# Altium footprint library 晶振.PcbLib: 19 footprints (part 1 of 2)
Each footprint in its own frame and in the unit in brackets; x right, y up, seen from the top. Pads: shape width x height; smd on the part's side, far side on the other; paste and mask are expansions set on the pad; w line width, h text height; cw(c..) or ccw(c..) is an arc to the next point about the centre after c.
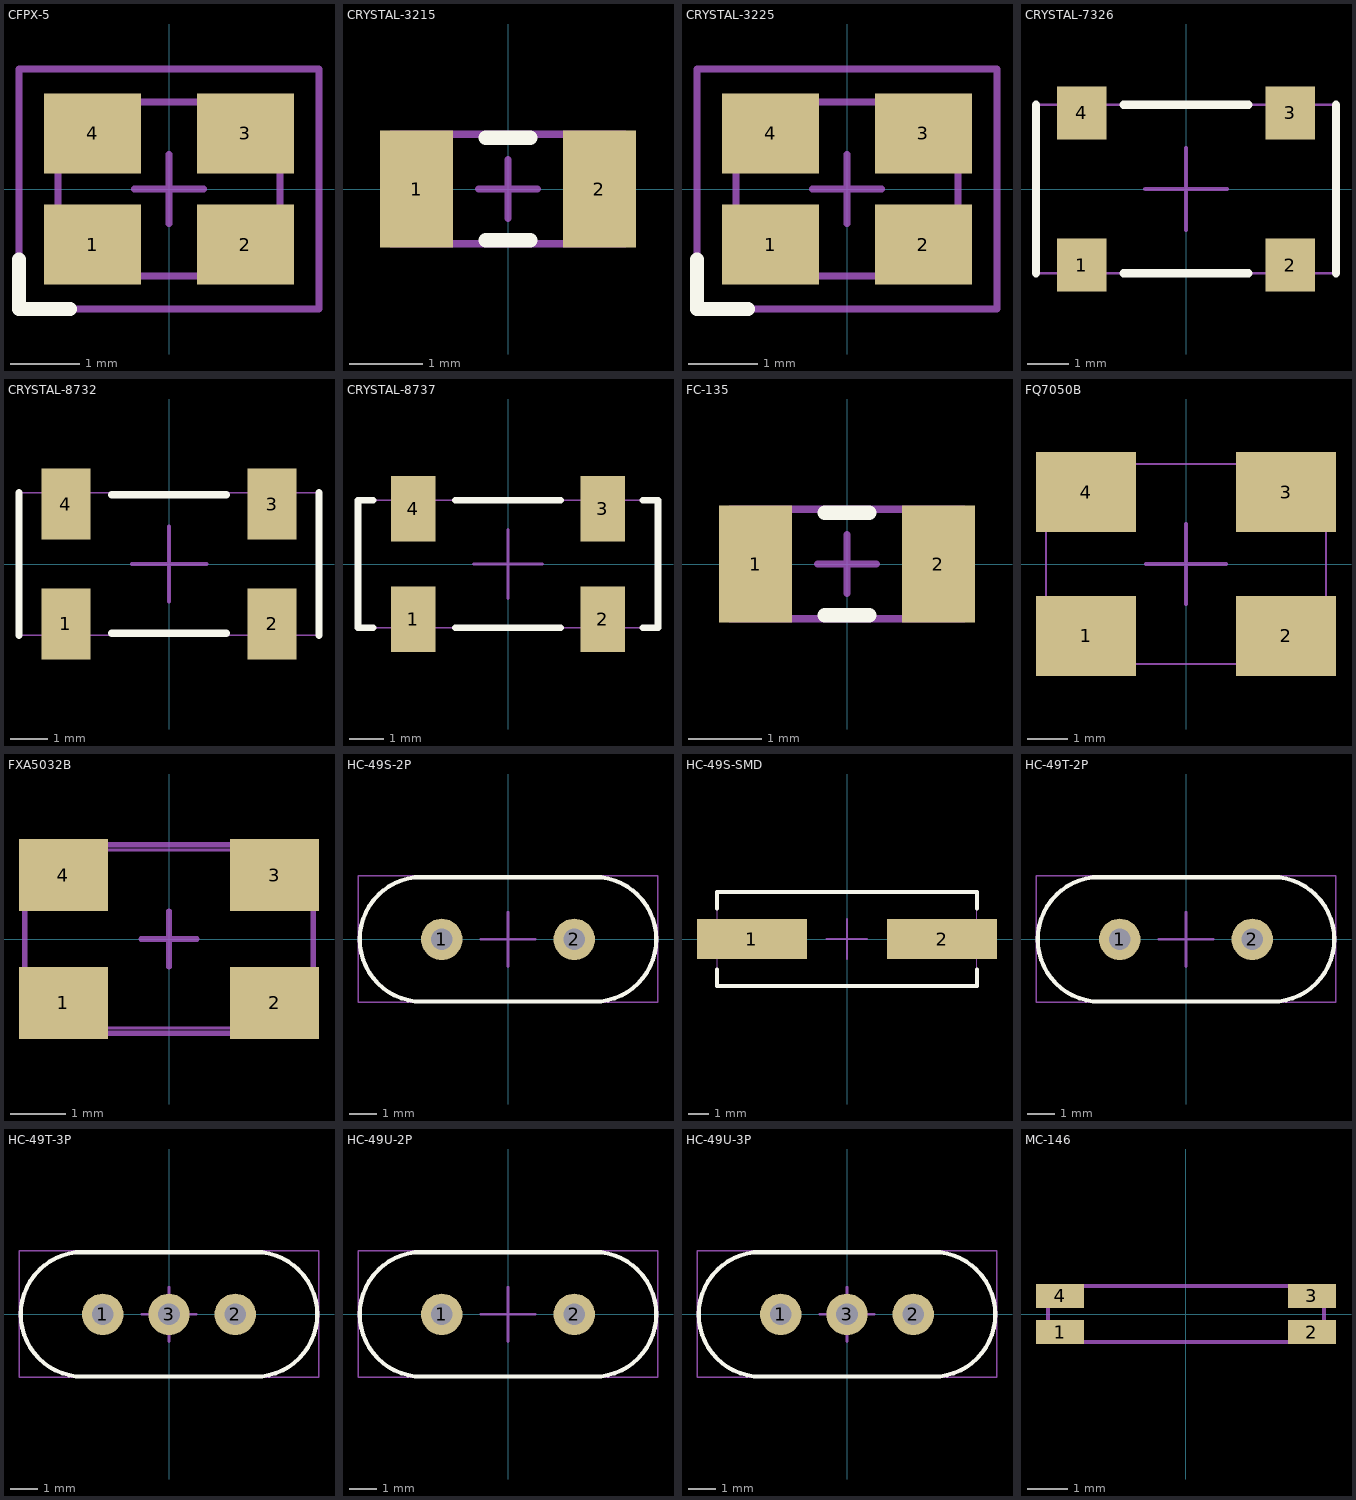
[diagram p0: the footprints below, top view; thin cyan lines are the x and y axes]

## CFPX-5 [mm] "Quartz Crystal, SM; Body 3.4 x 2.7 mm 有源晶振(LxW max)"
height 1
pads (4):
  rect 1.4x1.15 smd: 1(-1.1,-0.8) 2(1.1,-0.8) 3(1.1,0.8) 4(-1.1,0.8)
Top Overlay:
  lines w0.2: -2.159,-1.016 -2.159,-1.727 -1.422,-1.727
Mechanical 13:
  lines w0.1: -1.6,-1.25 1.6,-1.25 1.6,1.25 -1.6,1.25 -1.6,-1.25
Mechanical 15:
  lines w0.1: -0.5,0 0.5,0 ; 0,-0.5 0,0.5 ; -2.159,-1.727 -2.159,1.727 2.159,1.727 2.159,-1.727 -2.159,-1.727
3D body: height 1.1, standoff 0.1, extent -1.6,-1.25 1.6,1.25

## CRYSTAL-3215 [mm] "32.768KHz晶振"
height 0.8
pads (2):
  rect 1x1.6 smd: 1(-1.25,0) 2(1.25,0)
Top Overlay:
  lines w0.2: -0.3,-0.699 0.3,-0.699 ; -0.3,0.699 0.3,0.699
Mechanical 13:
  lines w0.05: -1.6,-0.763 -1.6,0.737 1.6,0.737 1.6,-0.763 -1.6,-0.763
Mechanical 15:
  lines w0.1: -0.85,-0.75 -0.85,0.75 ; -0.4,0 0.4,0 ; 0,-0.4 0,0.4 ; 0.85,-0.75 0.85,0.75 ; -1.6,-0.75 1.6,-0.75 1.6,0.75 -1.6,0.75 -1.6,-0.75
3D body: height 0.8, standoff 0, extent -1.6,-0.763 1.6,0.737

## CRYSTAL-3225 [mm] "Quartz Crystal, SM; Body 3.4 x 2.7 mm 有源晶振(LxW max)"
height 1
pads (4):
  rect 1.4x1.15 smd: 1(-1.1,-0.8) 2(1.1,-0.8) 3(1.1,0.8) 4(-1.1,0.8)
Top Overlay:
  lines w0.2: -2.159,-1.016 -2.159,-1.727 -1.422,-1.727
Mechanical 13:
  lines w0.1: -1.6,-1.25 -1.6,1.25 1.6,1.25 1.6,-1.25 -1.6,-1.25
Mechanical 15:
  lines w0.1: -0.5,0 0.5,0 ; 0,-0.5 0,0.5 ; -2.159,-1.727 -2.159,1.727 2.159,1.727 2.159,-1.727 -2.159,-1.727
3D body: height 1, standoff 0, extent -1.6,-1.25 1.6,1.25

## CRYSTAL-7326 [mm] "32768KHz晶振"
height 2
pads (4):
  rect 1.2x1.3 smd: 1(-2.54,-1.85) 2(2.54,-1.85) 3(2.54,1.85) 4(-2.54,1.85)
Top Overlay:
  lines w0.2: -3.65,-2.05 -3.65,2.05 ; -1.524,-2.05 1.524,-2.05 ; -1.524,2.05 1.524,2.05 ; 3.65,-2.05 3.65,2.05
Mechanical 13:
  lines w0.05: -3.65,-2.05 -3.65,2.05 3.65,2.05 3.65,-2.05 -3.65,-2.05
Mechanical 15:
  lines w0.1: -0.991,0 1,0 ; 0,-1 0,1
3D body: height 2, standoff 0, extent -3.65,-2.05 3.65,2.05

## CRYSTAL-8732 [mm] "32768KHz晶振"
height 2.54
pads (4):
  rect 1.3x1.9 smd: 1(-2.75,-1.6) 2(2.75,-1.6) 3(2.75,1.6) 4(-2.75,1.6)
Top Overlay:
  lines w0.2: -4,-1.9 -4,1.9 ; -1.524,-1.85 1.524,-1.85 ; -1.524,1.85 1.524,1.85 ; 4,-1.9 4,1.9
Mechanical 13:
  lines w0.05: -4,-1.9 -4,1.9 4,1.9 4,-1.9 -4,-1.9
Mechanical 15:
  lines w0.1: -0.991,0 1,0 ; 0,-1 0,1
3D body: height 2.54, standoff 0.04, extent -4,-1.9 4,1.9

## CRYSTAL-8737 [mm] "32768KHz晶振"
height 2.5
pads (4):
  rect 1.3x1.9 smd: 1(-2.75,-1.6) 2(2.75,-1.6) 3(2.75,1.6) 4(-2.75,1.6)
Top Overlay:
  lines w0.2: -3.912,-1.85 -4.35,-1.85 -4.35,1.85 -3.912,1.85 ; -1.524,-1.85 1.524,-1.85 ; -1.524,1.85 1.524,1.85 ; 3.912,-1.85 4.35,-1.85 4.35,1.85 3.912,1.85
Mechanical 13:
  lines w0.05: -4.35,-1.85 4.35,-1.85 4.35,1.85 -4.35,1.85 -4.35,-1.85
Mechanical 15:
  lines w0.1: -0.991,0 1,0 ; 0,-1 0,1
3D body: height 2.55, standoff 0.05, extent -4.35,-1.85 4.35,1.85

## FC-135 [mm] "32.768KHz晶振"
height 0.8
pads (2):
  rect 1x1.6 smd: 1(-1.25,0) 2(1.25,0)
Top Overlay:
  lines w0.2: -0.3,-0.699 0.3,-0.699 ; -0.3,0.699 0.3,0.699
Mechanical 13:
  lines w0.05: -1.6,-0.763 1.6,-0.763 1.6,0.737 -1.6,0.737 -1.6,-0.763
Mechanical 15:
  lines w0.1: -0.85,-0.75 -0.85,0.75 ; -0.4,0 0.4,0 ; 0,-0.4 0,0.4 ; 0.85,-0.75 0.85,0.75 ; -1.6,-0.75 -1.6,0.75 1.6,0.75 1.6,-0.75 -1.6,-0.75
3D body: height 0.8, standoff 0, extent -1.6,-0.763 1.6,0.737

## FQ7050B [mm] "贴片晶体振荡器"
height 1.3
pads (4):
  rect 2.5x2 smd: 1(-2.5,-1.8) 2(2.5,-1.8) 3(2.5,1.8) 4(-2.5,1.8)
Mechanical 13:
  lines w0.05: -3.5,-2.5 3.5,-2.5 3.5,2.5 -3.5,2.5 -3.5,-2.5
Mechanical 15:
  lines w0.1: -1,0 1,0 ; 0,-1 0,1
3D body: height 1.1, standoff 0, extent -3.5,-2.5 3.5,2.5

## FXA5032B [mm] "FXA5032B 振荡器"
height 1
pads (4):
  rect 1.6x1.3 smd: 1(-1.9,-1.15) 2(1.9,-1.15) 3(1.9,1.15) 4(-1.9,1.15)
Mechanical 13:
  lines w0.05: -2.609,-1.6 2.591,-1.6 2.591,1.6 -2.609,1.6 -2.609,-1.6
Mechanical 15:
  lines w0.1: -0.5,0 0.5,0 ; 0,-0.5 0,0.5 ; -2.6,-1.7 2.6,-1.7 2.6,1.7 -2.6,1.7 -2.6,-1.7
3D body: height 1, standoff 0, extent -2.609,-1.6 2.591,1.6

## HC-49S-2P [mm] "晶体振荡器"
height 3.6
pads (2):
  round 1.524 hole 0.8: 1(-2.44,0) 2(2.44,0)
Top Overlay:
  lines w0.152: -3.429,-2.286 cw(c-3.16,0) -3.429,2.286 3.429,2.286 cw(c3.16,0) 3.429,-2.286 -3.429,-2.286
Mechanical 13:
  lines w0.05: -5.525,-2.313 5.525,-2.313 5.525,2.337 -5.525,2.337 -5.525,-2.313
Mechanical 15:
  lines w0.1: -1,0 1,0 ; 0,-1 0,1
3D body: height 3.7, standoff -3.9, extent -5.525,-2.313 5.525,2.337

## HC-49S-SMD [mm] "贴片HC-49S晶振"
height 4.5
pads (2):
  rect 5.5x2 smd: 1(-4.75,0) 2(4.75,0)
Top Overlay:
  lines w0.2: -6.5,-1.524 -6.5,-2.35 6.5,-2.35 6.5,-1.524 ; -6.5,1.524 -6.5,2.35 6.5,2.35 6.5,1.524
Mechanical 13:
  lines w0.05: -6.5,-2.35 -6.5,2.35 6.5,2.35 6.5,-2.35 -6.5,-2.35
Mechanical 15:
  lines w0.1: -1.016,0 1,0 ; 0,-1 0,1
3D body: height 4, standoff 0, extent -6.5,-2.35 6.5,2.35

## HC-49T-2P [mm] "晶体振荡器"
height 11.2
pads (2):
  round 1.524 hole 0.8: 1(-2.44,0) 2(2.44,0)
Top Overlay:
  lines w0.152: -3.429,-2.286 cw(c-3.16,0) -3.429,2.286 3.429,2.286 cw(c3.16,0) 3.429,-2.286 -3.429,-2.286
Mechanical 13:
  lines w0.05: -5.525,-2.313 5.525,-2.313 5.525,2.337 -5.525,2.337 -5.525,-2.313
Mechanical 15:
  lines w0.1: -1,0 1,0 ; 0,-1 0,1
3D body: height 11.2, standoff -3.9, extent -5.525,-2.313 5.525,2.337

## HC-49T-3P [mil] "晶体振荡器"
height 440.94
pads (3):
  round 60 hole 31.5: 1(-96.06,0) 2(96.06,0) 3(0,0)
Top Overlay:
  lines w6: -135,-90 cw(c-124.43,0) -135,90 135,90 cw(c124.43,0) 135,-90 -135,-90
Mechanical 13:
  lines w1.97: -217.52,-91.07 217.52,-91.07 217.52,92 -217.52,92 -217.52,-91.07
Mechanical 15:
  lines w3.94: -39.37,0 39.37,0 ; 0,-39.37 0,39.37
3D body: height 440.94, standoff -153.54, extent -217.52,-91.07 217.52,92

## HC-49U-2P [mm] "晶体振荡器"
height 13.46
pads (2):
  round 1.524 hole 0.8: 1(-2.44,0) 2(2.44,0)
Top Overlay:
  lines w0.152: -3.429,-2.286 cw(c-3.16,0) -3.429,2.286 3.429,2.286 cw(c3.16,0) 3.429,-2.286 -3.429,-2.286
Mechanical 13:
  lines w0.05: -5.525,-2.313 5.525,-2.313 5.525,2.337 -5.525,2.337 -5.525,-2.313
Mechanical 15:
  lines w0.1: -1,0 1,0 ; 0,-1 0,1
3D body: height 13.6, standoff -3.9, extent -5.525,-2.313 5.525,2.337

## HC-49U-3P [mil] "晶体振荡器"
height 529.92
pads (3):
  round 60 hole 31.5: 1(-96.06,0) 2(96.06,0) 3(0,0)
Top Overlay:
  lines w6: -135,-90 cw(c-124.43,0) -135,90 135,90 cw(c124.43,0) 135,-90 -135,-90
Mechanical 13:
  lines w1.97: -217.52,-91.07 -217.52,92 217.52,92 217.52,-91.07 -217.52,-91.07
Mechanical 15:
  lines w3.94: -39.37,0 39.37,0 ; 0,-39.37 0,39.37
3D body: height 535.43, standoff -153.54, extent -217.52,-91.07 217.52,92

## MC-146 [mm] "EA99, 32.768KHz晶振封装"
height 1.4
pads (4):
  rect 1.2x0.6 smd: 1(-3.15,-0.45) 2(3.15,-0.45) 3(3.15,0.45) 4(-3.15,0.45)
Mechanical 13:
  lines w0.1: -3.45,-0.7 -3.45,0.7 3.45,0.7 3.45,-0.7 -3.45,-0.7
Mechanical 15:
  lines w0.1: -3.45,-0.7 -3.45,0.7 3.45,0.7 3.45,-0.7 -3.45,-0.7
3D body: height 1.31, standoff -0.01, extent -3.45,-0.7 3.45,0.7